# Altium schematic symbol library CKC21C104KDGLC7805 v1.SCHLIB: 1 symbol
Pins are listed as number, name and electrical type; pins without a type are passive.

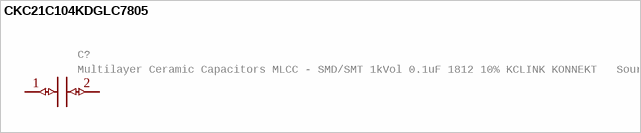
[diagram p0: symbol CKC21C104KDGLC7805]

## CKC21C104KDGLC7805
designator C?, comment Multilayer Ceramic Capacitors MLCC - SMD/SMT 1kVol 0.1uF 1812 10% KCLINK KONNEKT   Source:  Datasheet
MANUFACTURER_NAME: KEMET; GateName_1: G$1; SymbolName_1: CKC21C104KDGLC7805; LibraryName: CKC21C104KDGLC7805 v1; DeviceSetName: CKC21C104KDGLC7805; Package: CAPC5777X540N; DESCRIPTION: Multilayer Ceramic Capacitors MLCC - SMD/SMT 1kVol 0.1uF 1812 10% KCLINK KONNEKT; HEIGHT: 5.4mm; MANUFACTURER_PART_NUMBER: CKC21C104KDGLC7805; MOUSER_PART_NUMBER: 80-CKC21C104KDG7805; MOUSER_PRICE-STOCK: https://www.mouser.co.uk/ProductDetail/KEMET/CKC21C104KDGLC7805?qs=Li%252BoUPsLEntRx0nGSqp2Ng%3D%3D
footprint CAPC5777X540N
pins: 1 (io), 2 (io)